# Altium footprint library PcbLib1.PcbLib: 2 footprints
Each footprint in its own frame and in the unit in brackets; x right, y up, seen from the top. Pads: shape width x height; smd on the part's side, far side on the other; paste and mask are expansions set on the pad; w line width, h text height; cw(c..) or ccw(c..) is an arc to the next point about the centre after c.
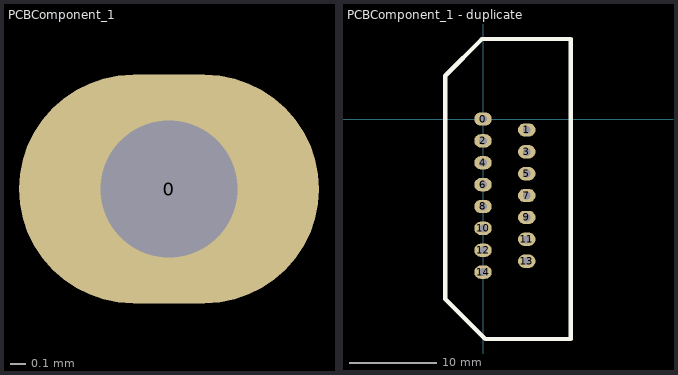
[diagram p0: the footprints below, top view; thin cyan lines are the x and y axes]

## PCBComponent_1 [mm]
pads (1):
  oval 2x1.524 hole 0.91: 0(-1.651,1.27)

## PCBComponent_1 - duplicate [mm]
pads (15):
  oval 2x1.524 hole 0.91: 0(0,0) 1(5,-1.25) 2(0,-2.5) 3(5,-3.75) 4(0,-5) 5(5,-6.25) 6(0,-7.5) 7(5,-8.75) 8(0,-10) 9(5,-11.25) 10(0,-12.5) 11(5,-13.75) 12(0,-15) 13(5,-16.25) 14(0,-17.5)
Top Overlay:
  lines w0.5: -4.318,-20.574 0.254,-25.146 10.033,-25.146 10.033,9.144 -0.127,9.144 -4.318,4.953 -4.318,4.826 -4.318,-20.574